# EAGLE library part ZSFP+ (library zSFP+)
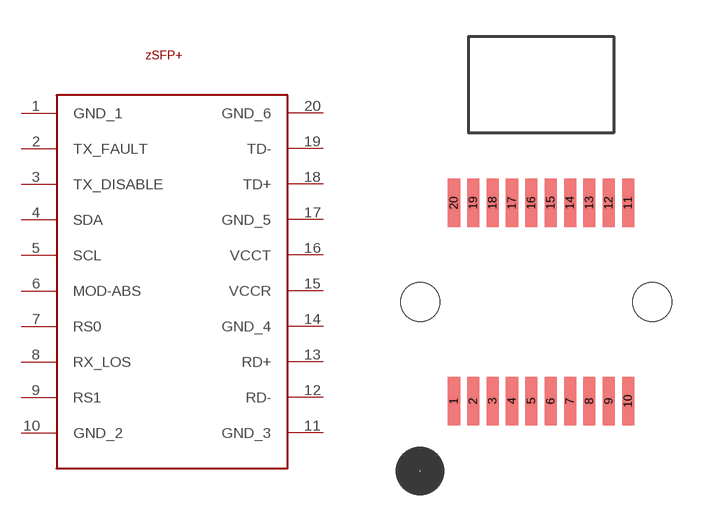
[diagram p0: symbol with the pads of ZSFP+; footprint ZSFP+]

Designator prefix -

## ZSFP+  [ZSFP+]
1  GND_1  pwr
2  TX_FAULT
3  TX_DISABLE
4  SDA
5  SCL
6  MOD-ABS
7  RS0
8  RX_LOS
9  RS1
10  GND_2  pwr
11  GND_3  pwr
12  RD-
13  RD+
14  GND_4  pwr
15  VCCR  pwr
16  VCCT  pwr
17  GND_5  pwr
18  TD+
19  TD-
20  GND_6  pwr

## Footprint ZSFP+ (pad centres in mm)
smd 0.5 x 2: 1 -3.6,-4.1; 2 -2.8,-4.1; 3 -2,-4.1; 4 -1.2,-4.1; 5 -0.4,-4.1; 6 0.4,-4.1; 7 1.2,-4.1; 8 2,-4.1; 9 2.8,-4.1; 10 3.6,-4.1; 11 3.6,4.1; 12 2.8,4.1; 13 2,4.1; 14 1.2,4.1; 15 0.4,4.1; 16 -0.4,4.1; 17 -1.2,4.1; 18 -2,4.1; 19 -2.8,4.1; 20 -3.6,4.1
hole 1.6 at -5,0
hole 1.6 at 4.6,0